# EAGLE library part DIP-MALE-DB9-CONNECTOR (library Seeed-OPL-Connector)
320110017
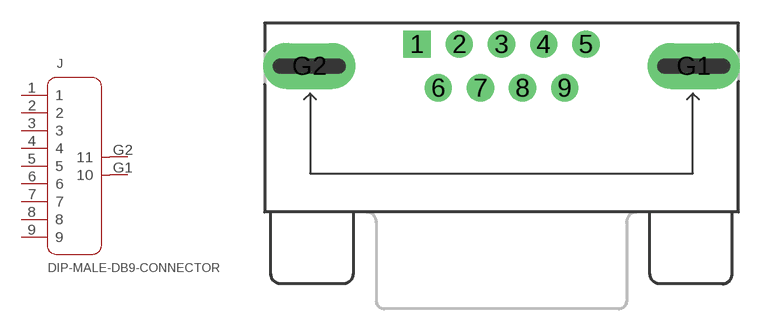
[diagram p43: symbol with the pads of DSUB9+2P-2.77-90D-MALE; footprint DSUB9+2P-2.77-90D-MALE]

Designator prefix J

## DIP-MALE-DB9-CONNECTOR (VALUE: DSUB9-90D-MALE)  [DSUB9+2P-2.77-90D-MALE]
1  1
2  2
3  3
4  4
5  5
6  6
7  7
8  8
9  9
G1  10
G2  11

## Footprint DSUB9+2P-2.77-90D-MALE (pad centres in mm)
drill 1.143 pad 1.778 square: 1 -5.486,1.422
drill 1.143 pad 1.778: 2 -2.743,1.422; 3 0,1.422; 4 2.743,1.422; 5 5.486,1.422; 6 -4.115,-1.422; 7 -1.372,-1.422; 8 1.372,-1.422; 9 4.115,-1.422
drill 1 pad 3 long: G1 12.497,0; G2 -12.497,0